# Altium integrated library NXP Semiconductors Standard MOSFETs.IntLib: 477 symbols (part 9 of 14)
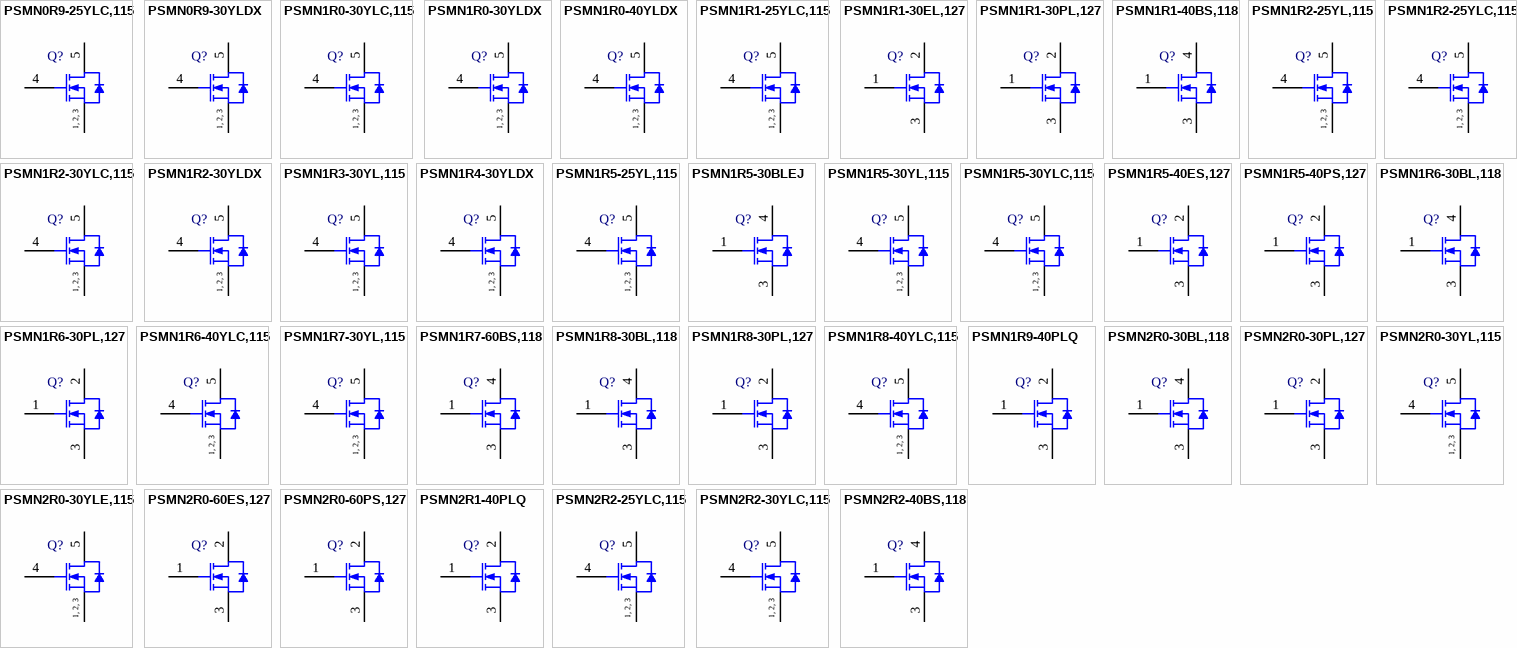
[diagram p20: symbols PSMN0R9-25YLC,115 to PSMN2R2-40BS,118]

## PSMN1R6-40YLC,115
designator Q?
N-Channel Logic Level MOSFET Using NextPower Technology, 40 V, 100 A, 5-Pin SOT1023, Tape and Reel; Manufacturer: NXP Semiconductors; PartNumber: PSMN1R6-40YLC,115; Channel Type: N; Ciss [typ] (pF): 7790; Coss [typ] (pF): 1063; ID [max] (A): 100; Packing: Tape & Reel; Qr [typ] (nC): 62; VDS [max] (V): 40; VGSth [typ] (V): 1.46; PackageVersion: 13-03-05, 03/2013; PackageReference: SOT1023; PackageDescription: 4-Pin Plastic Single-ended Surface Mounted Package, Body 5.125 x 4.575 mm, Pitch 1.27 mm; Supplier 1: Digi-Key; Supplier Part Number 1: 568-9907-2-ND; Supplier 2: Digi-Key; Supplier Part Number 2: 568-9907-1-ND; Supplier 3: Digi-Key; Supplier Part Number 3: 568-9907-6-ND; Mounting Technology: Surface Mount; ComponentLink1Description: Manufacturer URL; ComponentLink1URL: http://www.nxp.com/; ComponentLink2Description: Datasheet; ComponentLink2URL: http://www.nxp.com/documents/data_sheet/PSMN1R6-40YLC.pdf; ComponentLink3Description: Package Specification; ComponentLink3URL: http://www.nxp.com/documents/outline_drawing/sot1023_po.pdf
footprint NXP-SOT1023_N (DPAK, 4-Leads, Body 5.3x4.7mm, Pitch 1.27mm, IPC Medium Density)
footprint NXP-SOT1023_L (DPAK, 4-Leads, Body 5.3x4.7mm, Pitch 1.27mm, IPC High Density)
footprint NXP-SOT1023_M (DPAK, 4-Leads, Body 5.3x4.7mm, Pitch 1.27mm, IPC Low Density)
pins: 1 S "source", 2 S "source", 3 S "source", 4 G "gate", 5 D "mounting base; connected to drain"
text: 1, 2, 3

## PSMN1R7-30YL,115
designator Q?
N-Channel Logic Level MOSFET, 30 V, 100 A, 5-Pin SOT669, Tape and Reel; Manufacturer: NXP Semiconductors; PartNumber: PSMN1R7-30YL,115; Channel Type: N; Ciss [typ] (pF): 5057; Coss [typ] (pF): 1082; ID [max] (A): 100; Packing: Tape & Reel; Qr [typ] (nC): 56; VDS [max] (V): 30; VGSth [typ] (V): 1.7; DatasheetVersion: Rev. 1; PackageVersion: 13-02-27, 02/2013; PackageReference: SOT669; PackageDescription: 4-Pin Plastic Single-ended Surface Mounted Package, Body 4.9 x 3.95 mm, Pitch 1.27 mm; Supplier 1: Digi-Key; Supplier Part Number 1: 568-4678-2-ND; Supplier 2: Digi-Key; Supplier Part Number 2: 568-4678-1-ND; Supplier 3: Digi-Key; Supplier Part Number 3: 568-4678-6-ND; Supplier 4: Newark; Supplier Part Number 4: 75R4850; Supplier 5: Mouser; Supplier Part Number 5: 771-PSMN1R7-30YL-T/R; Mounting Technology: Surface Mount; Code_JEDEC: MO-235; ComponentLink1Description: Manufacturer URL; ComponentLink1URL: http://www.nxp.com/; ComponentLink2Description: Datasheet; ComponentLink2URL: http://www.nxp.com/documents/data_sheet/PSMN1R7-30YL.pdf; ComponentLink3Description: Package Specification; ComponentLink3URL: http://www.nxp.com/documents/outline_drawing/sot669_po.pdf
footprint NXP-SOT669_N (DPAK, 4-Leads, Body 5x4.1mm, Pitch 1.27mm, IPC Medium Density)
footprint NXP-SOT669_L (DPAK, 4-Leads, Body 5x4.1mm, Pitch 1.27mm, IPC High Density)
footprint NXP-SOT669_M (DPAK, 4-Leads, Body 5x4.1mm, Pitch 1.27mm, IPC Low Density)
pins: 1 S "source", 2 S "source", 3 S "source", 4 G "gate", 5 D "mounting base; connected to drain"
text: 1, 2, 3

## PSMN1R7-60BS,118
designator Q?
N-Channel Standard Level MOSFET, 60 V, 120 A, 3-Pin SOT404, Tape and Reel; Manufacturer: NXP Semiconductors; PartNumber: PSMN1R7-60BS,118; Channel Type: N; Ciss [typ] (pF): 9997; Coss [typ] (pF): 1210; ID [max] (A): 120; Packing: Tape & Reel; Qr [typ] (nC): 80; VDS [max] (V): 60; VGSth [typ] (V): 3; DatasheetVersion: Rev. 2; PackageVersion: 13-02-25, 02/2013; PackageReference: SOT404; PackageDescription: 3-Pin Plastic Single-ended Surface Mounted Package, Body 10 x 9.6 mm, Pitch 2.54 mm; Supplier 1: Digi-Key; Supplier Part Number 1: 568-9476-2-ND; Supplier 2: Digi-Key; Supplier Part Number 2: 568-9476-1-ND; Supplier 3: Digi-Key; Supplier Part Number 3: 568-9476-6-ND; Supplier 4: Mouser; Supplier Part Number 4: 771-PSMN1R7-60BS,118; Mounting Technology: Surface Mount; ComponentLink1Description: Manufacturer URL; ComponentLink1URL: http://www.nxp.com/; ComponentLink2Description: Datasheet; ComponentLink2URL: http://www.nxp.com/documents/data_sheet/PSMN1R7-60BS.pdf; ComponentLink3Description: Package Specification; ComponentLink3URL: http://www.nxp.com/documents/outline_drawing/sot404_po.pdf
footprint NXP-SOT404_N (DPAK, 3-Leads, Body 10.3x9.8mm, Pitch 2.54mm, IPC Medium Density)
footprint NXP-SOT404_L (DPAK, 3-Leads, Body 10.3x9.8mm, Pitch 2.54mm, IPC High Density)
footprint NXP-SOT404_M (DPAK, 3-Leads, Body 10.3x9.8mm, Pitch 2.54mm, IPC Low Density)
pins: 1 G "gate", 3 S "source", 4 D "mounting base; connected to drain"

## PSMN1R8-30BL,118
designator Q?
N-Channel Logic Level MOSFET, 30 V, 100 A, 3-Pin SOT404, Tape and Reel; Manufacturer: NXP Semiconductors; PartNumber: PSMN1R8-30BL,118; Channel Type: N; Ciss [typ] (pF): 10180; Coss [typ] (pF): 2000; ID [max] (A): 100; Packing: Tape & Reel; Qr [typ] (nC): 60; VDS [max] (V): 30; VGSth [typ] (V): 1.7; DatasheetVersion: Rev. 1; PackageVersion: 13-02-25, 02/2013; PackageReference: SOT404; PackageDescription: 3-Pin Plastic Single-ended Surface Mounted Package, Body 10 x 9.6 mm, Pitch 2.54 mm; Supplier 1: Digi-Key; Supplier Part Number 1: 568-9482-2-ND; Supplier 2: Digi-Key; Supplier Part Number 2: 568-9482-1-ND; Supplier 3: Digi-Key; Supplier Part Number 3: 568-9482-6-ND; Supplier 4: Mouser; Supplier Part Number 4: 771-PSMN1R8-30BL,118; Mounting Technology: Surface Mount; ComponentLink1Description: Manufacturer URL; ComponentLink1URL: http://www.nxp.com/; ComponentLink2Description: Datasheet; ComponentLink2URL: http://www.nxp.com/documents/data_sheet/PSMN1R8-30BL.pdf; ComponentLink3Description: Package Specification; ComponentLink3URL: http://www.nxp.com/documents/outline_drawing/sot404_po.pdf
footprint NXP-SOT404_N (DPAK, 3-Leads, Body 10.3x9.8mm, Pitch 2.54mm, IPC Medium Density)
footprint NXP-SOT404_L (DPAK, 3-Leads, Body 10.3x9.8mm, Pitch 2.54mm, IPC High Density)
footprint NXP-SOT404_M (DPAK, 3-Leads, Body 10.3x9.8mm, Pitch 2.54mm, IPC Low Density)
pins: 1 G "gate", 3 S "source", 4 D "mounting base; connected to drain"

## PSMN1R8-30PL,127
designator Q?
N-Channel Logic Level MOSFET, 30 V, 100 A, 3-Pin SOT78, Tube; Manufacturer: NXP Semiconductors; PartNumber: PSMN1R8-30PL,127; Channel Type: N; Ciss [typ] (pF): 10180; Coss [typ] (pF): 2000; ID [max] (A): 100; Qr [typ] (nC): 60; VDS [max] (V): 30; VGSth [typ] (V): 1.7; DatasheetVersion: Rev. 02; PackageVersion: 08-06-13, 06/2008; PackageReference: SOT78; PackageDescription: 3-Pin Flange Mount, Vertical Straight Lead, Body 10 x 4.4 mm, Pitch 2.54 mm; Supplier 1: Digi-Key; Supplier Part Number 1: 568-5234-5-ND; Supplier 2: Mouser; Supplier Part Number 2: 771-PSMN1R830PL127; Packing: Tube; Mounting Technology: Through Hole; Code_JEITA: SC-46; Code_JEDEC: 3-lead TO-220AB; ComponentLink1Description: Manufacturer URL; ComponentLink1URL: http://www.nxp.com/; ComponentLink2Description: Datasheet; ComponentLink2URL: http://www.nxp.com/documents/data_sheet/PSMN1R8-30PL.pdf; ComponentLink3Description: Package Specification; ComponentLink3URL: http://www.nxp.com/documents/outline_drawing/sot078_po.pdf
footprint NXP-SOT78 (FM, 3-Leads, Body 10.3x4.7mm, Pitch 2.54mm)
pins: 1 G "gate", 2 D "drain", 3 S "source"

## PSMN1R8-40YLC,115
designator Q?
N-Channel Logic Level MOSFET Using NextPower Technology, 40 V, 100 A, 5-Pin SOT669, Tape and Reel; Manufacturer: NXP Semiconductors; PartNumber: PSMN1R8-40YLC,115; Channel Type: N; Ciss [typ] (pF): 6680; Coss [typ] (pF): 825; ID [max] (A): 100; Packing: Tape & Reel; Qr [typ] (nC): 43; VDS [max] (V): 40; VGSth [typ] (V): 1.45; PackageVersion: 13-02-27, 02/2013; PackageReference: SOT669; PackageDescription: 4-Pin Plastic Single-ended Surface Mounted Package, Body 4.9 x 3.95 mm, Pitch 1.27 mm; Supplier 1: Digi-Key; Supplier Part Number 1: 568-10156-2-ND; Supplier 2: Digi-Key; Supplier Part Number 2: 568-10156-1-ND; Supplier 3: Digi-Key; Supplier Part Number 3: 568-10156-6-ND; Supplier 4: Newark; Supplier Part Number 4: 45W9052; Supplier 5: Mouser; Supplier Part Number 5: 771-PSMN1R8-40YLC115; Mounting Technology: Surface Mount; Code_JEDEC: MO-235; ComponentLink1Description: Manufacturer URL; ComponentLink1URL: http://www.nxp.com/; ComponentLink2Description: Datasheet; ComponentLink2URL: http://www.nxp.com/documents/data_sheet/PSMN1R8-40YLC.pdf; ComponentLink3Description: Package Specification; ComponentLink3URL: http://www.nxp.com/documents/outline_drawing/sot669_po.pdf
footprint NXP-SOT669_N (DPAK, 4-Leads, Body 5x4.1mm, Pitch 1.27mm, IPC Medium Density)
footprint NXP-SOT669_L (DPAK, 4-Leads, Body 5x4.1mm, Pitch 1.27mm, IPC High Density)
footprint NXP-SOT669_M (DPAK, 4-Leads, Body 5x4.1mm, Pitch 1.27mm, IPC Low Density)
pins: 1 S "source", 2 S "source", 3 S "source", 4 G "gate", 5 D "mounting base; connected to drain"
text: 1, 2, 3

## PSMN1R9-40PLQ
designator Q?
N-Channel Logic Level MOSFET, 40 V, 150 A, 3-Pin SOT78, Tube; Manufacturer: NXP Semiconductors; PartNumber: PSMN1R9-40PLQ; Channel Type: N; Ciss [typ] (pF): 13200; Coss [typ] (pF): 1530; ID [max] (A): 150; Qr [typ] (nC): 97; VDS [max] (V): 40; VGSth [typ] (V): 1.7; PackageVersion: 08-06-13, 06/2008; PackageReference: SOT78; PackageDescription: 3-Pin Flange Mount, Vertical Straight Lead, Body 10 x 4.4 mm, Pitch 2.54 mm; Supplier 1: Digi-Key; Supplier Part Number 1: 568-11542-ND; Supplier 2: Newark; Supplier Part Number 2: 70W0397; Supplier 3: Mouser; Supplier Part Number 3: 771-PSMN1R9-40PLQ; Packing: Tube; Mounting Technology: Through Hole; Code_JEITA: SC-46; Code_JEDEC: 3-lead TO-220AB; ComponentLink1Description: Manufacturer URL; ComponentLink1URL: http://www.nxp.com/; ComponentLink2Description: Datasheet; ComponentLink2URL: http://www.nxp.com/documents/data_sheet/PSMN1R9-40PL.pdf; ComponentLink3Description: Package Specification; ComponentLink3URL: http://www.nxp.com/documents/outline_drawing/sot078_po.pdf
footprint NXP-SOT78 (FM, 3-Leads, Body 10.3x4.7mm, Pitch 2.54mm)
pins: 1 G "gate", 2 D "drain", 3 S "source"

## PSMN2R0-30BL,118
designator Q?
N-Channel Logic Level MOSFET, 30 V, 100 A, 3-Pin SOT404, Tape and Reel; Manufacturer: NXP Semiconductors; PartNumber: PSMN2R0-30BL,118; Channel Type: N; Ciss [typ] (pF): 6810; Coss [typ] (pF): 1410; ID [max] (A): 100; Packing: Tape & Reel; Qr [typ] (nC): 66; VDS [max] (V): 30; VGSth [typ] (V): 1.7; DatasheetVersion: Rev. 1; PackageVersion: 13-02-25, 02/2013; PackageReference: SOT404; PackageDescription: 3-Pin Plastic Single-ended Surface Mounted Package, Body 10 x 9.6 mm, Pitch 2.54 mm; Supplier 1: Digi-Key; Supplier Part Number 1: 568-9483-2-ND; Supplier 2: Digi-Key; Supplier Part Number 2: 568-9483-1-ND; Supplier 3: Digi-Key; Supplier Part Number 3: 568-9483-6-ND; Supplier 4: Mouser; Supplier Part Number 4: 771-PSMN2R0-30BL,118; Mounting Technology: Surface Mount; ComponentLink1Description: Manufacturer URL; ComponentLink1URL: http://www.nxp.com/; ComponentLink2Description: Datasheet; ComponentLink2URL: http://www.nxp.com/documents/data_sheet/PSMN2R0-30BL.pdf; ComponentLink3Description: Package Specification; ComponentLink3URL: http://www.nxp.com/documents/outline_drawing/sot404_po.pdf
footprint NXP-SOT404_N (DPAK, 3-Leads, Body 10.3x9.8mm, Pitch 2.54mm, IPC Medium Density)
footprint NXP-SOT404_L (DPAK, 3-Leads, Body 10.3x9.8mm, Pitch 2.54mm, IPC High Density)
footprint NXP-SOT404_M (DPAK, 3-Leads, Body 10.3x9.8mm, Pitch 2.54mm, IPC Low Density)
pins: 1 G "gate", 3 S "source", 4 D "mounting base; connected to drain"

## PSMN2R0-30PL,127
designator Q?
N-Channel Logic Level MOSFET, 30 V, 100 A, 3-Pin SOT78, Tube; Manufacturer: NXP Semiconductors; PartNumber: PSMN2R0-30PL,127; Channel Type: N; Ciss [typ] (pF): 6810; Coss [typ] (pF): 1410; ID [max] (A): 100; Qr [typ] (nC): 66; VDS [max] (V): 30; VGSth [typ] (V): 1.7; DatasheetVersion: Rev. 01; PackageVersion: 08-06-13, 06/2008; PackageReference: SOT78; PackageDescription: 3-Pin Flange Mount, Vertical Straight Lead, Body 10 x 4.4 mm, Pitch 2.54 mm; Supplier 1: Digi-Key; Supplier Part Number 1: 568-4899-5-ND; Supplier 2: Newark; Supplier Part Number 2: 70R7958; Supplier 3: Mouser; Supplier Part Number 3: 771-PSMN2R0-30PL,127; Packing: Tube; Mounting Technology: Through Hole; Code_JEITA: SC-46; Code_JEDEC: 3-lead TO-220AB; ComponentLink1Description: Manufacturer URL; ComponentLink1URL: http://www.nxp.com/; ComponentLink2Description: Datasheet; ComponentLink2URL: http://www.nxp.com/documents/data_sheet/PSMN2R0-30PL.pdf; ComponentLink3Description: Package Specification; ComponentLink3URL: http://www.nxp.com/documents/outline_drawing/sot078_po.pdf
footprint NXP-SOT78 (FM, 3-Leads, Body 10.3x4.7mm, Pitch 2.54mm)
pins: 1 G "gate", 2 D "drain", 3 S "source"

## PSMN2R0-30YL,115
designator Q?
N-Channel Logic Level MOSFET, 30 V, 100 A, 5-Pin SOT669, Tape and Reel; Manufacturer: NXP Semiconductors; PartNumber: PSMN2R0-30YL,115; Channel Type: N; Ciss [typ] (pF): 3980; Coss [typ] (pF): 857; ID [max] (A): 100; Packing: Tape & Reel; Qr [typ] (nC): 49; VDS [max] (V): 30; VGSth [typ] (V): 1.7; DatasheetVersion: Rev. 4; PackageVersion: 13-02-27, 02/2013; PackageReference: SOT669; PackageDescription: 4-Pin Plastic Single-ended Surface Mounted Package, Body 4.9 x 3.95 mm, Pitch 1.27 mm; Supplier 1: Digi-Key; Supplier Part Number 1: 568-4679-2-ND; Supplier 2: Digi-Key; Supplier Part Number 2: 568-4679-1-ND; Supplier 3: Digi-Key; Supplier Part Number 3: 568-4679-6-ND; Supplier 4: Newark; Supplier Part Number 4: 75R4852; Supplier 5: Mouser; Supplier Part Number 5: 771-PSMN2R0-30YL-T/R; Mounting Technology: Surface Mount; Code_JEDEC: MO-235; ComponentLink1Description: Manufacturer URL; ComponentLink1URL: http://www.nxp.com/; ComponentLink2Description: Datasheet; ComponentLink2URL: http://www.nxp.com/documents/data_sheet/PSMN2R0-30YL.pdf; ComponentLink3Description: Package Specification; ComponentLink3URL: http://www.nxp.com/documents/outline_drawing/sot669_po.pdf
footprint NXP-SOT669_N (DPAK, 4-Leads, Body 5x4.1mm, Pitch 1.27mm, IPC Medium Density)
footprint NXP-SOT669_L (DPAK, 4-Leads, Body 5x4.1mm, Pitch 1.27mm, IPC High Density)
footprint NXP-SOT669_M (DPAK, 4-Leads, Body 5x4.1mm, Pitch 1.27mm, IPC Low Density)
pins: 1 S "source", 2 S "source", 3 S "source", 4 G "gate", 5 D "mounting base; connected to drain"
text: 1, 2, 3

## PSMN2R0-30YLE,115
designator Q?
N-Channel Logic Level MOSFET, 30 V, 100 A, 5-Pin SOT669, Tape and Reel; Manufacturer: NXP Semiconductors; PartNumber: PSMN2R0-30YLE,115; Channel Type: N; Ciss [typ] (pF): 5217; Coss [typ] (pF): 1015; ID [max] (A): 100; Packing: Tape & Reel; Qr [typ] (nC): 49.8; VDS [max] (V): 30; VGSth [typ] (V): 1.7; PackageVersion: 13-02-27, 02/2013; PackageReference: SOT669; PackageDescription: 4-Pin Plastic Single-ended Surface Mounted Package, Body 4.9 x 3.95 mm, Pitch 1.27 mm; Supplier 1: Digi-Key; Supplier Part Number 1: 568-10285-2-ND; Supplier 2: Digi-Key; Supplier Part Number 2: 568-10285-1-ND; Supplier 3: Digi-Key; Supplier Part Number 3: 568-10285-6-ND; Supplier 4: Mouser; Supplier Part Number 4: 771-PSMN2R0-30YLE115; Mounting Technology: Surface Mount; Code_JEDEC: MO-235; ComponentLink1Description: Manufacturer URL; ComponentLink1URL: http://www.nxp.com/; ComponentLink2Description: Datasheet; ComponentLink2URL: http://www.nxp.com/documents/data_sheet/PSMN2R0-30YLE.pdf; ComponentLink3Description: Package Specification; ComponentLink3URL: http://www.nxp.com/documents/outline_drawing/sot669_po.pdf
footprint NXP-SOT669_N (DPAK, 4-Leads, Body 5x4.1mm, Pitch 1.27mm, IPC Medium Density)
footprint NXP-SOT669_L (DPAK, 4-Leads, Body 5x4.1mm, Pitch 1.27mm, IPC High Density)
footprint NXP-SOT669_M (DPAK, 4-Leads, Body 5x4.1mm, Pitch 1.27mm, IPC Low Density)
pins: 1 S "source", 2 S "source", 3 S "source", 4 G "gate", 5 D "mounting base; connected to drain"
text: 1, 2, 3

## PSMN2R0-60ES,127
designator Q?
N-Channel Standard Level MOSFET, 60 V, 120 A, 3-Pin SOT226, Rail; Manufacturer: NXP Semiconductors; PartNumber: PSMN2R0-60ES,127; Channel Type: N; Ciss [typ] (pF): 9997; Coss [typ] (pF): 1210; ID [max] (A): 120; Qr [typ] (nC): 80; VDS [max] (V): 60; VGSth [typ] (V): 3; DatasheetVersion: Rev. 02; PackageVersion: 09-08-25, 08/2009; PackageReference: SOT226; PackageDescription: 3-Pin Flange Mount, Vertical Straight Lead, Body 10 x 4.3 mm, Pitch 2.54 mm; Supplier 1: Digi-Key; Supplier Part Number 1: 568-6709-5-ND; Supplier 2: Mouser; Supplier Part Number 2: 771-PSMN2R060ES127; Packing: Rail; Mounting Technology: Through Hole; Code_JEDEC: TO-262; ComponentLink1Description: Manufacturer URL; ComponentLink1URL: http://www.nxp.com/; ComponentLink2Description: Datasheet; ComponentLink2URL: http://www.nxp.com/documents/data_sheet/PSMN2R0-60ES.pdf; ComponentLink3Description: Package Specification; ComponentLink3URL: http://www.nxp.com/documents/outline_drawing/sot226_po.pdf
footprint NXP-SOT226 (FM, 3-Leads, Body 10.3x4.5mm, Pitch 2.54mm)
pins: 1 G "gate", 2 D "drain", 3 S "source"

## PSMN2R0-60PS,127
designator Q?
N-Channel Standard Level MOSFET, 60 V, 120 A, 3-Pin SOT78, Tube; Manufacturer: NXP Semiconductors; PartNumber: PSMN2R0-60PS,127; Channel Type: N; Ciss [typ] (pF): 9997; Coss [typ] (pF): 1210; ID [max] (A): 120; Qr [typ] (nC): 80; VDS [max] (V): 60; VGSth [typ] (V): 3; PackageVersion: 08-06-13, 06/2008; PackageReference: SOT78; PackageDescription: 3-Pin Flange Mount, Vertical Straight Lead, Body 10 x 4.4 mm, Pitch 2.54 mm; Supplier 1: Digi-Key; Supplier Part Number 1: 568-6712-5-ND; Supplier 2: Newark; Supplier Part Number 2: 54T9420; Supplier 3: Mouser; Supplier Part Number 3: 771-PSMN2R060PS127; Packing: Tube; Mounting Technology: Through Hole; Code_JEITA: SC-46; Code_JEDEC: 3-lead TO-220AB; ComponentLink1Description: Manufacturer URL; ComponentLink1URL: http://www.nxp.com/; ComponentLink2Description: Datasheet; ComponentLink2URL: http://www.nxp.com/documents/data_sheet/PSMN2R0-60PS.pdf; ComponentLink3Description: Package Specification; ComponentLink3URL: http://www.nxp.com/documents/outline_drawing/sot078_po.pdf
footprint NXP-SOT78 (FM, 3-Leads, Body 10.3x4.7mm, Pitch 2.54mm)
pins: 1 G "gate", 2 D "drain", 3 S "source"

## PSMN2R1-40PLQ
designator Q?
N-Channel Logic Level MOSFET, 40 V, 150 A, 3-Pin SOT78, Tube; Manufacturer: NXP Semiconductors; PartNumber: PSMN2R1-40PLQ; Channel Type: N; Ciss [typ] (pF): 9584; Coss [typ] (pF): 1190; ID [max] (A): 150; Qr [typ] (nC): 62; VDS [max] (V): 40; VGSth [typ] (V): 1.7; PackageVersion: 08-06-13, 06/2008; PackageReference: SOT78; PackageDescription: 3-Pin Flange Mount, Vertical Straight Lead, Body 10 x 4.4 mm, Pitch 2.54 mm; Supplier 1: Digi-Key; Supplier Part Number 1: 568-10163-5-ND; Supplier 2: Mouser; Supplier Part Number 2: 771-PSMN2R1-40PLQ; Packing: Tube; Mounting Technology: Through Hole; Code_JEITA: SC-46; Code_JEDEC: 3-lead TO-220AB; ComponentLink1Description: Manufacturer URL; ComponentLink1URL: http://www.nxp.com/; ComponentLink2Description: Datasheet; ComponentLink2URL: http://www.nxp.com/documents/data_sheet/PSMN2R1-40PL.pdf; ComponentLink3Description: Package Specification; ComponentLink3URL: http://www.nxp.com/documents/outline_drawing/sot078_po.pdf
footprint NXP-SOT78 (FM, 3-Leads, Body 10.3x4.7mm, Pitch 2.54mm)
pins: 1 G "gate", 2 D "drain", 3 S "source"

## PSMN2R2-25YLC,115
designator Q?
N-Channel Logic Level MOSFET Using NextPower Technology, 25 V, 100 A, 5-Pin SOT669, Tape and Reel; Manufacturer: NXP Semiconductors; PartNumber: PSMN2R2-25YLC,115; Channel Type: N; Ciss [typ] (pF): 2542; Coss [typ] (pF): 617; ID [max] (A): 100; Packing: Tape & Reel; Qr [typ] (nC): 31; VDS [max] (V): 25; VGSth [typ] (V): 1.54; DatasheetVersion: Rev. 1; PackageVersion: 13-02-27, 02/2013; PackageReference: SOT669; PackageDescription: 4-Pin Plastic Single-ended Surface Mounted Package, Body 4.9 x 3.95 mm, Pitch 1.27 mm; Supplier 1: Digi-Key; Supplier Part Number 1: 568-6729-2-ND; Supplier 2: Digi-Key; Supplier Part Number 2: 568-6729-1-ND; Supplier 3: Digi-Key; Supplier Part Number 3: 568-6729-6-ND; Supplier 4: Mouser; Supplier Part Number 4: 771-PSMN2R225YLC115; Mounting Technology: Surface Mount; Code_JEDEC: MO-235; ComponentLink1Description: Manufacturer URL; ComponentLink1URL: http://www.nxp.com/; ComponentLink2Description: Datasheet; ComponentLink2URL: http://www.nxp.com/documents/data_sheet/PSMN2R2-25YLC.pdf; ComponentLink3Description: Package Specification; ComponentLink3URL: http://www.nxp.com/documents/outline_drawing/sot669_po.pdf
footprint NXP-SOT669_N (DPAK, 4-Leads, Body 5x4.1mm, Pitch 1.27mm, IPC Medium Density)
footprint NXP-SOT669_L (DPAK, 4-Leads, Body 5x4.1mm, Pitch 1.27mm, IPC High Density)
footprint NXP-SOT669_M (DPAK, 4-Leads, Body 5x4.1mm, Pitch 1.27mm, IPC Low Density)
pins: 1 S "source", 2 S "source", 3 S "source", 4 G "gate", 5 D "mounting base; connected to drain"
text: 1, 2, 3

## PSMN2R2-30YLC,115
designator Q?
N-Channel Logic Level MOSFET Using NextPower Technology, 30 V, 100 A, 5-Pin SOT669, Tape and Reel; Manufacturer: NXP Semiconductors; PartNumber: PSMN2R2-30YLC,115; Channel Type: N; Ciss [typ] (pF): 3310; Coss [typ] (pF): 651; ID [max] (A): 100; Packing: Tape & Reel; Qr [typ] (nC): 37; VDS [max] (V): 30; VGSth [typ] (V): 1.49; DatasheetVersion: Rev. 02; PackageVersion: 13-02-27, 02/2013; PackageReference: SOT669; PackageDescription: 4-Pin Plastic Single-ended Surface Mounted Package, Body 4.9 x 3.95 mm, Pitch 1.27 mm; Supplier 1: Digi-Key; Supplier Part Number 1: 568-6728-2-ND; Supplier 2: Digi-Key; Supplier Part Number 2: 568-6728-1-ND; Supplier 3: Digi-Key; Supplier Part Number 3: 568-6728-6-ND; Supplier 4: Newark; Supplier Part Number 4: 47T5638; Supplier 5: Mouser; Supplier Part Number 5: 771-PSMN2R230YLC115; Mounting Technology: Surface Mount; Code_JEDEC: MO-235; ComponentLink1Description: Manufacturer URL; ComponentLink1URL: http://www.nxp.com/; ComponentLink2Description: Datasheet; ComponentLink2URL: http://www.nxp.com/documents/data_sheet/PSMN2R2-30YLC.pdf; ComponentLink3Description: Package Specification; ComponentLink3URL: http://www.nxp.com/documents/outline_drawing/sot669_po.pdf
footprint NXP-SOT669_N (DPAK, 4-Leads, Body 5x4.1mm, Pitch 1.27mm, IPC Medium Density)
footprint NXP-SOT669_L (DPAK, 4-Leads, Body 5x4.1mm, Pitch 1.27mm, IPC High Density)
footprint NXP-SOT669_M (DPAK, 4-Leads, Body 5x4.1mm, Pitch 1.27mm, IPC Low Density)
pins: 1 S "source", 2 S "source", 3 S "source", 4 G "gate", 5 D "mounting base; connected to drain"
text: 1, 2, 3

## PSMN2R2-40BS,118
designator Q?
N-Channel Standard Level MOSFET, 40 V, 100 A, 3-Pin SOT404, Tape and Reel; Manufacturer: NXP Semiconductors; PartNumber: PSMN2R2-40BS,118; Channel Type: N; Ciss [typ] (pF): 8423; Coss [typ] (pF): 1671; ID [max] (A): 100; Packing: Tape & Reel; Qr [typ] (nC): 80.75; VDS [max] (V): 40; VGSth [typ] (V): 3; DatasheetVersion: Rev. 1; PackageVersion: 13-02-25, 02/2013; PackageReference: SOT404; PackageDescription: 3-Pin Plastic Single-ended Surface Mounted Package, Body 10 x 9.6 mm, Pitch 2.54 mm; Supplier 1: Digi-Key; Supplier Part Number 1: 568-9488-2-ND; Supplier 2: Digi-Key; Supplier Part Number 2: 568-9488-1-ND; Supplier 3: Digi-Key; Supplier Part Number 3: 568-9488-6-ND; Supplier 4: Mouser; Supplier Part Number 4: 771-PSMN2R2-40BS,118; Mounting Technology: Surface Mount; ComponentLink1Description: Manufacturer URL; ComponentLink1URL: http://www.nxp.com/; ComponentLink2Description: Datasheet; ComponentLink2URL: http://www.nxp.com/documents/data_sheet/PSMN2R2-40BS.pdf; ComponentLink3Description: Package Specification; ComponentLink3URL: http://www.nxp.com/documents/outline_drawing/sot404_po.pdf
footprint NXP-SOT404_N (DPAK, 3-Leads, Body 10.3x9.8mm, Pitch 2.54mm, IPC Medium Density)
footprint NXP-SOT404_L (DPAK, 3-Leads, Body 10.3x9.8mm, Pitch 2.54mm, IPC High Density)
footprint NXP-SOT404_M (DPAK, 3-Leads, Body 10.3x9.8mm, Pitch 2.54mm, IPC Low Density)
pins: 1 G "gate", 3 S "source", 4 D "mounting base; connected to drain"

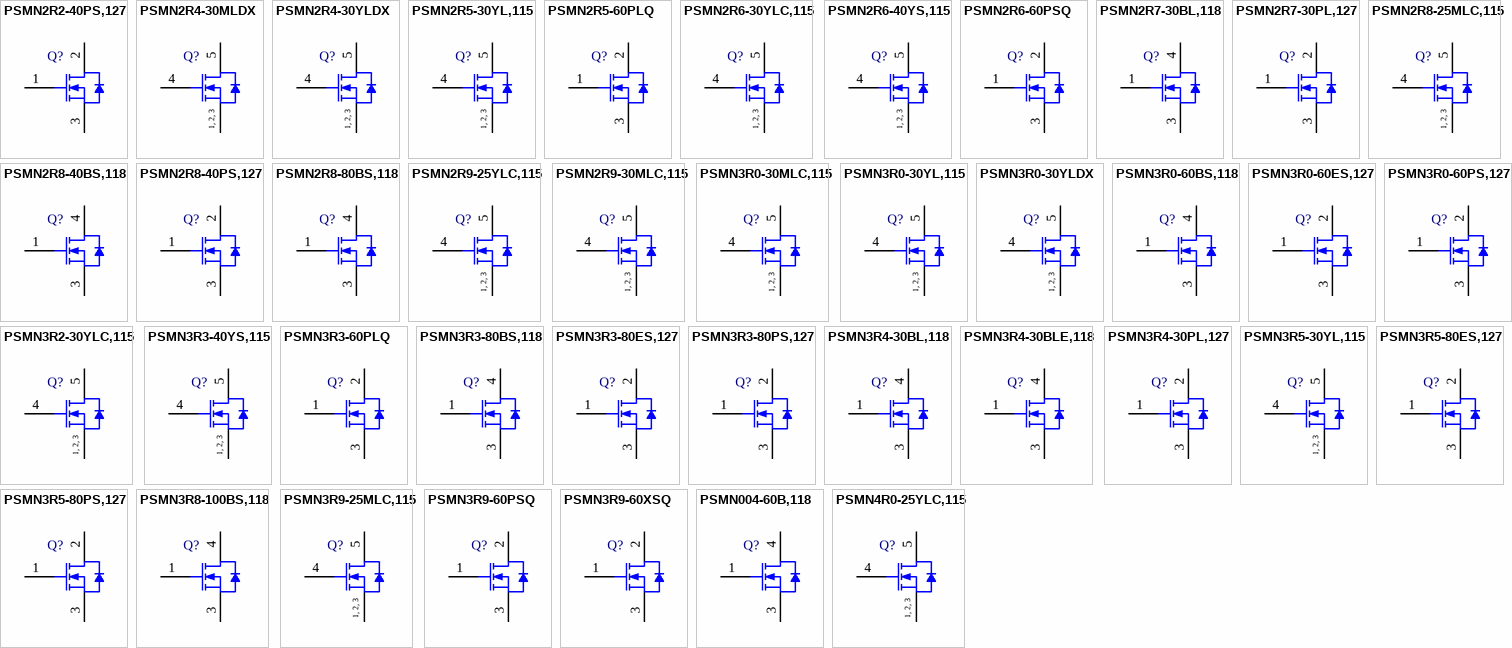
[diagram p8: symbols PSMN2R2-40PS,127 to PSMN4R0-25YLC,115]

## PSMN2R2-40PS,127
designator Q?
N-Channel Standard Level MOSFET, 40 V, 100 A, 3-Pin SOT78, Tube; Manufacturer: NXP Semiconductors; PartNumber: PSMN2R2-40PS,127; Channel Type: N; Ciss [typ] (pF): 8423; Coss [typ] (pF): 1671; ID [max] (A): 100; Qr [typ] (nC): 80.75; VDS [max] (V): 40; VGSth [typ] (V): 3; PackageVersion: 08-06-13, 06/2008; PackageReference: SOT78; PackageDescription: 3-Pin Flange Mount, Vertical Straight Lead, Body 10 x 4.4 mm, Pitch 2.54 mm; Supplier 1: Digi-Key; Supplier Part Number 1: 568-4898-5-ND; Supplier 2: Newark; Supplier Part Number 2: 70R7960; Supplier 3: Mouser; Supplier Part Number 3: 771-PSMN2R2-40PS,127; Packing: Tube; Mounting Technology: Through Hole; Code_JEITA: SC-46; Code_JEDEC: 3-lead TO-220AB; ComponentLink1Description: Manufacturer URL; ComponentLink1URL: http://www.nxp.com/; ComponentLink2Description: Datasheet; ComponentLink2URL: http://www.nxp.com/documents/data_sheet/PSMN2R2-40PS.pdf; ComponentLink3Description: Package Specification; ComponentLink3URL: http://www.nxp.com/documents/outline_drawing/sot078_po.pdf
footprint NXP-SOT78 (FM, 3-Leads, Body 10.3x4.7mm, Pitch 2.54mm)
pins: 1 G "gate", 2 D "drain", 3 S "source"

## PSMN2R4-30MLDX
designator Q?
N-Channel Logic Level MOSFET Using NextPowerS3 Technology, 30 V, 70 A, 5-Pin SOT1210, Reel; Manufacturer: NXP Semiconductors; PartNumber: PSMN2R4-30MLDX; Channel Type: N; Ciss [typ] (pF): 2176; Coss [typ] (pF): 1150; ID [max] (A): 70; Qr [typ] (nC): 23.5; VDS [max] (V): 30; VGSth [typ] (V): 1.7; PackageVersion: 14-04-25, 04/2014; PackageReference: SOT1210; PackageDescription: 8-Pin Plastic Single-ended Surface Mounted Package, Body 3.3 x 2.6 mm, Pitch 0.65 mm; Supplier 1: Digi-Key; Supplier Part Number 1: 568-11374-2-ND; Supplier 2: Digi-Key; Supplier Part Number 2: 568-11374-1-ND; Supplier 3: Digi-Key; Supplier Part Number 3: 568-11374-6-ND; Supplier 4: Newark; Supplier Part Number 4: 27X7566; Supplier 5: Mouser; Supplier Part Number 5: 771-PSMN2R4-30MLDX; Packing: Reel; Mounting Technology: Surface Mount; ComponentLink1Description: Manufacturer URL; ComponentLink1URL: http://www.nxp.com/; ComponentLink2Description: Datasheet; ComponentLink2URL: http://www.nxp.com/documents/data_sheet/PSMN2R4-30MLD.pdf; ComponentLink3Description: Package Specification; ComponentLink3URL: http://www.nxp.com/documents/outline_drawing/sot1210_po.pdf
footprint NXP-SOT1210_N (DPAK, 5-Leads, Body 3.4x2.7mm, Pitch 0.65mm, IPC Medium Density)
footprint NXP-SOT1210_L (DPAK, 5-Leads, Body 3.4x2.7mm, Pitch 0.65mm, IPC High Density)
footprint NXP-SOT1210_M (DPAK, 5-Leads, Body 3.4x2.7mm, Pitch 0.65mm, IPC Low Density)
pins: 1 S "source", 2 S "source", 3 S "source", 4 G "gate", 5 D "mounting base; connected to drain"
text: 1, 2, 3

## PSMN2R4-30YLDX
designator Q?
N-Channel Logic Level MOSFET Using NextPowerS3 Technology, 30 V, 100 A, 5-Pin SOT669, Tape and Reel; Manufacturer: NXP Semiconductors; PartNumber: PSMN2R4-30YLDX; Channel Type: N; Ciss [typ] (pF): 2256; Coss [typ] (pF): 1175; ID [max] (A): 100; Packing: Tape & Reel; Qr [typ] (nC): 20; VDS [max] (V): 30; VGSth [typ] (V): 1.7; PackageVersion: 13-02-27, 02/2013; PackageReference: SOT669; PackageDescription: 4-Pin Plastic Single-ended Surface Mounted Package, Body 4.9 x 3.95 mm, Pitch 1.27 mm; Supplier 1: Digi-Key; Supplier Part Number 1: 568-11375-2-ND; Supplier 2: Digi-Key; Supplier Part Number 2: 568-11375-1-ND; Supplier 3: Digi-Key; Supplier Part Number 3: 568-11375-6-ND; Supplier 4: Newark; Supplier Part Number 4: 27X7567; Supplier 5: Mouser; Supplier Part Number 5: 771-PSMN2R4-30YLDX; Mounting Technology: Surface Mount; Code_JEDEC: MO-235; ComponentLink1Description: Manufacturer URL; ComponentLink1URL: http://www.nxp.com/; ComponentLink2Description: Datasheet; ComponentLink2URL: http://www.nxp.com/documents/data_sheet/PSMN2R4-30YLD.pdf; ComponentLink3Description: Package Specification; ComponentLink3URL: http://www.nxp.com/documents/outline_drawing/sot669_po.pdf
footprint NXP-SOT669_N (DPAK, 4-Leads, Body 5x4.1mm, Pitch 1.27mm, IPC Medium Density)
footprint NXP-SOT669_L (DPAK, 4-Leads, Body 5x4.1mm, Pitch 1.27mm, IPC High Density)
footprint NXP-SOT669_M (DPAK, 4-Leads, Body 5x4.1mm, Pitch 1.27mm, IPC Low Density)
pins: 1 S "source", 2 S "source", 3 S "source", 4 G "gate", 5 D "mounting base; connected to drain"
text: 1, 2, 3

## PSMN2R5-30YL,115
designator Q?
N-Channel Logic Level MOSFET, 30 V, 100 A, 5-Pin SOT669, Tape and Reel; Manufacturer: NXP Semiconductors; PartNumber: PSMN2R5-30YL,115; Channel Type: N; Ciss [typ] (pF): 3468; Coss [typ] (pF): 710; ID [max] (A): 100; Packing: Tape & Reel; Qr [typ] (nC): 38; VDS [max] (V): 30; VGSth [typ] (V): 1.7; DatasheetVersion: Rev. 04; PackageVersion: 13-02-27, 02/2013; PackageReference: SOT669; PackageDescription: 4-Pin Plastic Single-ended Surface Mounted Package, Body 4.9 x 3.95 mm, Pitch 1.27 mm; Supplier 1: Digi-Key; Supplier Part Number 1: 568-4680-2-ND; Supplier 2: Digi-Key; Supplier Part Number 2: 568-4680-1-ND; Supplier 3: Digi-Key; Supplier Part Number 3: 568-4680-6-ND; Supplier 4: Newark; Supplier Part Number 4: 79R2062; Supplier 5: Mouser; Supplier Part Number 5: 771-PSMN2R5-30YL-T/R; Mounting Technology: Surface Mount; Code_JEDEC: MO-235; ComponentLink1Description: Manufacturer URL; ComponentLink1URL: http://www.nxp.com/; ComponentLink2Description: Datasheet; ComponentLink2URL: http://www.nxp.com/documents/data_sheet/PSMN2R5-30YL.pdf; ComponentLink3Description: Package Specification; ComponentLink3URL: http://www.nxp.com/documents/outline_drawing/sot669_po.pdf
footprint NXP-SOT669_N (DPAK, 4-Leads, Body 5x4.1mm, Pitch 1.27mm, IPC Medium Density)
footprint NXP-SOT669_L (DPAK, 4-Leads, Body 5x4.1mm, Pitch 1.27mm, IPC High Density)
footprint NXP-SOT669_M (DPAK, 4-Leads, Body 5x4.1mm, Pitch 1.27mm, IPC Low Density)
pins: 1 S "source", 2 S "source", 3 S "source", 4 G "gate", 5 D "mounting base; connected to drain"
text: 1, 2, 3

## PSMN2R5-60PLQ
designator Q?
N-Channel Logic Level MOSFET, 60 V, 150 A, 3-Pin SOT78, Tube; Manufacturer: NXP Semiconductors; PartNumber: PSMN2R5-60PLQ; Channel Type: N; Ciss [typ] (pF): 11700; Coss [typ] (pF): 1025; ID [max] (A): 150; Qr [typ] (nC): 98; VDS [max] (V): 60; VGSth [typ] (V): 1.7; PackageVersion: 08-06-13, 06/2008; PackageReference: SOT78; PackageDescription: 3-Pin Flange Mount, Vertical Straight Lead, Body 10 x 4.4 mm, Pitch 2.54 mm; Supplier 1: Digi-Key; Supplier Part Number 1: 568-10164-5-ND; Supplier 2: Mouser; Supplier Part Number 2: 771-PSMN2R5-60PLQ; Packing: Tube; Mounting Technology: Through Hole; Code_JEITA: SC-46; Code_JEDEC: 3-lead TO-220AB; ComponentLink1Description: Manufacturer URL; ComponentLink1URL: http://www.nxp.com/; ComponentLink2Description: Datasheet; ComponentLink2URL: http://www.nxp.com/documents/data_sheet/PSMN2R5-60PL.pdf; ComponentLink3Description: Package Specification; ComponentLink3URL: http://www.nxp.com/documents/outline_drawing/sot078_po.pdf
footprint NXP-SOT78 (FM, 3-Leads, Body 10.3x4.7mm, Pitch 2.54mm)
pins: 1 G "gate", 2 D "drain", 3 S "source"

## PSMN2R6-30YLC,115
designator Q?
N-Channel Logic Level MOSFET Using NextPower Technology, 30 V, 100 A, 5-Pin SOT669, Tape and Reel; Manufacturer: NXP Semiconductors; PartNumber: PSMN2R6-30YLC,115; Channel Type: N; Ciss [typ] (pF): 2435; Coss [typ] (pF): 549; ID [max] (A): 100; Packing: Tape & Reel; Qr [typ] (nC): 31; VDS [max] (V): 30; VGSth [typ] (V): 1.54; DatasheetVersion: Rev. 01; PackageVersion: 13-02-27, 02/2013; PackageReference: SOT669; PackageDescription: 4-Pin Plastic Single-ended Surface Mounted Package, Body 4.9 x 3.95 mm, Pitch 1.27 mm; Supplier 1: Digi-Key; Supplier Part Number 1: 568-6730-2-ND; Supplier 2: Digi-Key; Supplier Part Number 2: 568-6730-1-ND; Supplier 3: Digi-Key; Supplier Part Number 3: 568-6730-6-ND; Supplier 4: Mouser; Supplier Part Number 4: 771-PSMN2R630YLC115; Mounting Technology: Surface Mount; Code_JEDEC: MO-235; ComponentLink1Description: Manufacturer URL; ComponentLink1URL: http://www.nxp.com/; ComponentLink2Description: Datasheet; ComponentLink2URL: http://www.nxp.com/documents/data_sheet/PSMN2R6-30YLC.pdf; ComponentLink3Description: Package Specification; ComponentLink3URL: http://www.nxp.com/documents/outline_drawing/sot669_po.pdf
footprint NXP-SOT669_N (DPAK, 4-Leads, Body 5x4.1mm, Pitch 1.27mm, IPC Medium Density)
footprint NXP-SOT669_L (DPAK, 4-Leads, Body 5x4.1mm, Pitch 1.27mm, IPC High Density)
footprint NXP-SOT669_M (DPAK, 4-Leads, Body 5x4.1mm, Pitch 1.27mm, IPC Low Density)
pins: 1 S "source", 2 S "source", 3 S "source", 4 G "gate", 5 D "mounting base; connected to drain"
text: 1, 2, 3

## PSMN2R6-40YS,115
designator Q?
N-Channel Standard Level MOSFET, 40 V, 100 A, 5-Pin SOT669, Tape and Reel; Manufacturer: NXP Semiconductors; PartNumber: PSMN2R6-40YS,115; Channel Type: N; Ciss [typ] (pF): 3776; Coss [typ] (pF): 948; ID [max] (A): 100; Packing: Tape & Reel; Qr [typ] (nC): 47; VDS [max] (V): 40; VGSth [typ] (V): 3; DatasheetVersion: Rev. 01; PackageVersion: 13-02-27, 02/2013; PackageReference: SOT669; PackageDescription: 4-Pin Plastic Single-ended Surface Mounted Package, Body 4.9 x 3.95 mm, Pitch 1.27 mm; Supplier 1: Digi-Key; Supplier Part Number 1: 568-4906-2-ND; Supplier 2: Digi-Key; Supplier Part Number 2: 568-4906-1-ND; Supplier 3: Digi-Key; Supplier Part Number 3: 568-4906-6-ND; Supplier 4: Newark; Supplier Part Number 4: 79R2063; Supplier 5: Newark; Supplier Part Number 5: 70R7962; Supplier 6: Mouser; Supplier Part Number 6: 771-PSMN2R6-40YS,115; Mounting Technology: Surface Mount; Code_JEDEC: MO-235; ComponentLink1Description: Manufacturer URL; ComponentLink1URL: http://www.nxp.com/; ComponentLink2Description: Datasheet; ComponentLink2URL: http://www.nxp.com/documents/data_sheet/PSMN2R6-40YS.pdf; ComponentLink3Description: Package Specification; ComponentLink3URL: http://www.nxp.com/documents/outline_drawing/sot669_po.pdf
footprint NXP-SOT669_N (DPAK, 4-Leads, Body 5x4.1mm, Pitch 1.27mm, IPC Medium Density)
footprint NXP-SOT669_L (DPAK, 4-Leads, Body 5x4.1mm, Pitch 1.27mm, IPC High Density)
footprint NXP-SOT669_M (DPAK, 4-Leads, Body 5x4.1mm, Pitch 1.27mm, IPC Low Density)
pins: 1 S "source", 2 S "source", 3 S "source", 4 G "gate", 5 D "mounting base; connected to drain"
text: 1, 2, 3

## PSMN2R6-60PSQ
designator Q?
N-Channel Standard Level MOSFET, 60 V, 150 A, 3-Pin SOT78, Tube; Manufacturer: NXP Semiconductors; PartNumber: PSMN2R6-60PSQ; Channel Type: N; Ciss [typ] (pF): 7629; Coss [typ] (pF): 968; ID [max] (A): 150; Qr [typ] (nC): 67; VDS [max] (V): 60; VGSth [typ] (V): 3; PackageVersion: 08-06-13, 06/2008; PackageReference: SOT78; PackageDescription: 3-Pin Flange Mount, Vertical Straight Lead, Body 10 x 4.4 mm, Pitch 2.54 mm; Supplier 1: Digi-Key; Supplier Part Number 1: 568-10165-5-ND; Supplier 2: Mouser; Supplier Part Number 2: 771-PSMN2R6-60PSQ; Packing: Tube; Mounting Technology: Through Hole; Code_JEITA: SC-46; Code_JEDEC: 3-lead TO-220AB; ComponentLink1Description: Manufacturer URL; ComponentLink1URL: http://www.nxp.com/; ComponentLink2Description: Datasheet; ComponentLink2URL: http://www.nxp.com/documents/data_sheet/PSMN2R6-60PS.pdf; ComponentLink3Description: Package Specification; ComponentLink3URL: http://www.nxp.com/documents/outline_drawing/sot078_po.pdf
footprint NXP-SOT78 (FM, 3-Leads, Body 10.3x4.7mm, Pitch 2.54mm)
pins: 1 G "gate", 2 D "drain", 3 S "source"

## PSMN2R7-30BL,118
designator Q?
N-Channel Logic Level MOSFET, 30 V, 100 A, 3-Pin SOT404, Tape and Reel; Manufacturer: NXP Semiconductors; PartNumber: PSMN2R7-30BL,118; Channel Type: N; Ciss [typ] (pF): 3954; Coss [typ] (pF): 822; ID [max] (A): 100; Packing: Tape & Reel; Qr [typ] (nC): 33; VDS [max] (V): 30; VGSth [typ] (V): 1.7; DatasheetVersion: Rev. 1; PackageVersion: 13-02-25, 02/2013; PackageReference: SOT404; PackageDescription: 3-Pin Plastic Single-ended Surface Mounted Package, Body 10 x 9.6 mm, Pitch 2.54 mm; Supplier 1: Digi-Key; Supplier Part Number 1: 568-9484-2-ND; Supplier 2: Digi-Key; Supplier Part Number 2: 568-9484-1-ND; Supplier 3: Digi-Key; Supplier Part Number 3: 568-9484-6-ND; Supplier 4: Mouser; Supplier Part Number 4: 771-PSMN2R7-30BL,118; Mounting Technology: Surface Mount; ComponentLink1Description: Manufacturer URL; ComponentLink1URL: http://www.nxp.com/; ComponentLink2Description: Datasheet; ComponentLink2URL: http://www.nxp.com/documents/data_sheet/PSMN2R7-30BL.pdf; ComponentLink3Description: Package Specification; ComponentLink3URL: http://www.nxp.com/documents/outline_drawing/sot404_po.pdf
footprint NXP-SOT404_N (DPAK, 3-Leads, Body 10.3x9.8mm, Pitch 2.54mm, IPC Medium Density)
footprint NXP-SOT404_L (DPAK, 3-Leads, Body 10.3x9.8mm, Pitch 2.54mm, IPC High Density)
footprint NXP-SOT404_M (DPAK, 3-Leads, Body 10.3x9.8mm, Pitch 2.54mm, IPC Low Density)
pins: 1 G "gate", 3 S "source", 4 D "mounting base; connected to drain"

## PSMN2R7-30PL,127
designator Q?
N-Channel Logic Level MOSFET, 30 V, 100 A, 3-Pin SOT78, Tube; Manufacturer: NXP Semiconductors; PartNumber: PSMN2R7-30PL,127; Channel Type: N; Ciss [typ] (pF): 3954; Coss [typ] (pF): 822; ID [max] (A): 100; Qr [typ] (nC): 33; VDS [max] (V): 30; VGSth [typ] (V): 1.7; DatasheetVersion: Rev. 02; PackageVersion: 08-06-13, 06/2008; PackageReference: SOT78; PackageDescription: 3-Pin Flange Mount, Vertical Straight Lead, Body 10 x 4.4 mm, Pitch 2.54 mm; Supplier 1: Digi-Key; Supplier Part Number 1: 568-5235-5-ND; Supplier 2: Mouser; Supplier Part Number 2: 771-PSMN2R730PL127; Packing: Tube; Mounting Technology: Through Hole; Code_JEITA: SC-46; Code_JEDEC: 3-lead TO-220AB; ComponentLink1Description: Manufacturer URL; ComponentLink1URL: http://www.nxp.com/; ComponentLink2Description: Datasheet; ComponentLink2URL: http://www.nxp.com/documents/data_sheet/PSMN2R7-30PL.pdf; ComponentLink3Description: Package Specification; ComponentLink3URL: http://www.nxp.com/documents/outline_drawing/sot078_po.pdf
footprint NXP-SOT78 (FM, 3-Leads, Body 10.3x4.7mm, Pitch 2.54mm)
pins: 1 G "gate", 2 D "drain", 3 S "source"

## PSMN2R8-25MLC,115
designator Q?
N-Channel Logic Level MOSFET Using NextPower Technology, 25 V, 70 A, 5-Pin SOT1210, Reel; Manufacturer: NXP Semiconductors; PartNumber: PSMN2R8-25MLC,115; Channel Type: N; Ciss [typ] (pF): 2432; Coss [typ] (pF): 533; ID [max] (A): 70; Qr [typ] (nC): 14.1; VDS [max] (V): 25; VGSth [typ] (V): 1.74; DatasheetVersion: Rev. 3; PackageVersion: 14-04-25, 04/2014; PackageReference: SOT1210; PackageDescription: 8-Pin Plastic Single-ended Surface Mounted Package, Body 3.3 x 2.6 mm, Pitch 0.65 mm; Supplier 1: Digi-Key; Supplier Part Number 1: 568-9572-2-ND; Supplier 2: Digi-Key; Supplier Part Number 2: 568-9572-1-ND; Supplier 3: Digi-Key; Supplier Part Number 3: 568-9572-6-ND; Supplier 4: Mouser; Supplier Part Number 4: 771-PSMN2R8-25MLC115; Packing: Reel; Mounting Technology: Surface Mount; ComponentLink1Description: Manufacturer URL; ComponentLink1URL: http://www.nxp.com/; ComponentLink2Description: Datasheet; ComponentLink2URL: http://www.nxp.com/documents/data_sheet/PSMN2R8-25MLC.pdf; ComponentLink3Description: Package Specification; ComponentLink3URL: http://www.nxp.com/documents/outline_drawing/sot1210_po.pdf
footprint NXP-SOT1210_N (DPAK, 5-Leads, Body 3.4x2.7mm, Pitch 0.65mm, IPC Medium Density)
footprint NXP-SOT1210_L (DPAK, 5-Leads, Body 3.4x2.7mm, Pitch 0.65mm, IPC High Density)
footprint NXP-SOT1210_M (DPAK, 5-Leads, Body 3.4x2.7mm, Pitch 0.65mm, IPC Low Density)
pins: 1 S "source", 2 S "source", 3 S "source", 4 G "gate", 5 D "mounting base; connected to drain"
text: 1, 2, 3

## PSMN2R8-40BS,118
designator Q?
N-Channel Standard Level MOSFET, 40 V, 100 A, 3-Pin SOT404, Tape and Reel; Manufacturer: NXP Semiconductors; PartNumber: PSMN2R8-40BS,118; Channel Type: N; Ciss [typ] (pF): 4491; Coss [typ] (pF): 937; ID [max] (A): 100; Packing: Tape & Reel; Qr [typ] (nC): 61; VDS [max] (V): 40; VGSth [typ] (V): 3; DatasheetVersion: Rev. 1; PackageVersion: 13-02-25, 02/2013; PackageReference: SOT404; PackageDescription: 3-Pin Plastic Single-ended Surface Mounted Package, Body 10 x 9.6 mm, Pitch 2.54 mm; Supplier 1: Digi-Key; Supplier Part Number 1: 568-9489-2-ND; Supplier 2: Digi-Key; Supplier Part Number 2: 568-9489-1-ND; Supplier 3: Digi-Key; Supplier Part Number 3: 568-9489-6-ND; Supplier 4: Mouser; Supplier Part Number 4: 771-PSMN2R8-40BS,118; Mounting Technology: Surface Mount; ComponentLink1Description: Manufacturer URL; ComponentLink1URL: http://www.nxp.com/; ComponentLink2Description: Datasheet; ComponentLink2URL: http://www.nxp.com/documents/data_sheet/PSMN2R8-40BS.pdf; ComponentLink3Description: Package Specification; ComponentLink3URL: http://www.nxp.com/documents/outline_drawing/sot404_po.pdf
footprint NXP-SOT404_N (DPAK, 3-Leads, Body 10.3x9.8mm, Pitch 2.54mm, IPC Medium Density)
footprint NXP-SOT404_L (DPAK, 3-Leads, Body 10.3x9.8mm, Pitch 2.54mm, IPC High Density)
footprint NXP-SOT404_M (DPAK, 3-Leads, Body 10.3x9.8mm, Pitch 2.54mm, IPC Low Density)
pins: 1 G "gate", 3 S "source", 4 D "mounting base; connected to drain"

## PSMN2R8-40PS,127
designator Q?
N-Channel Standard Level MOSFET, 40 V, 100 A, 3-Pin SOT78, Tube; Manufacturer: NXP Semiconductors; PartNumber: PSMN2R8-40PS,127; Channel Type: N; Ciss [typ] (pF): 4491; Coss [typ] (pF): 937; ID [max] (A): 100; Qr [typ] (nC): 61; VDS [max] (V): 40; VGSth [typ] (V): 3; PackageVersion: 08-06-13, 06/2008; PackageReference: SOT78; PackageDescription: 3-Pin Flange Mount, Vertical Straight Lead, Body 10 x 4.4 mm, Pitch 2.54 mm; Supplier 1: Digi-Key; Supplier Part Number 1: 568-7513-5-ND; Supplier 2: Mouser; Supplier Part Number 2: 771-PSMN2R840PS127; Packing: Tube; Mounting Technology: Through Hole; Code_JEITA: SC-46; Code_JEDEC: 3-lead TO-220AB; ComponentLink1Description: Manufacturer URL; ComponentLink1URL: http://www.nxp.com/; ComponentLink2Description: Datasheet; ComponentLink2URL: http://www.nxp.com/documents/data_sheet/PSMN2R8-40PS.pdf; ComponentLink3Description: Package Specification; ComponentLink3URL: http://www.nxp.com/documents/outline_drawing/sot078_po.pdf
footprint NXP-SOT78 (FM, 3-Leads, Body 10.3x4.7mm, Pitch 2.54mm)
pins: 1 G "gate", 2 D "drain", 3 S "source"

## PSMN2R8-80BS,118
designator Q?
N-Channel Standard Level FET, 80 V, 120 A, 3-Pin SOT404, Tape and Reel; Manufacturer: NXP Semiconductors; PartNumber: PSMN2R8-80BS,118; Channel Type: N; Ciss [typ] (pF): 9961; Coss [typ] (pF): 847; ID [max] (A): 120; Packing: Tape & Reel; Qr [typ] (nC): 121; VDS [max] (V): 80; VGSth [typ] (V): 3; DatasheetVersion: Rev. 2; PackageVersion: 13-02-25, 02/2013; PackageReference: SOT404; PackageDescription: 3-Pin Plastic Single-ended Surface Mounted Package, Body 10 x 9.6 mm, Pitch 2.54 mm; Supplier 1: Digi-Key; Supplier Part Number 1: 568-9477-2-ND; Supplier 2: Digi-Key; Supplier Part Number 2: 568-9477-1-ND; Supplier 3: Digi-Key; Supplier Part Number 3: 568-9477-6-ND; Supplier 4: Mouser; Supplier Part Number 4: 771-PSMN2R8-80BS,118; Mounting Technology: Surface Mount; ComponentLink1Description: Manufacturer URL; ComponentLink1URL: http://www.nxp.com/; ComponentLink2Description: Datasheet; ComponentLink2URL: http://www.nxp.com/documents/data_sheet/PSMN2R8-80BS.pdf; ComponentLink3Description: Package Specification; ComponentLink3URL: http://www.nxp.com/documents/outline_drawing/sot404_po.pdf
footprint NXP-SOT404_N (DPAK, 3-Leads, Body 10.3x9.8mm, Pitch 2.54mm, IPC Medium Density)
footprint NXP-SOT404_L (DPAK, 3-Leads, Body 10.3x9.8mm, Pitch 2.54mm, IPC High Density)
footprint NXP-SOT404_M (DPAK, 3-Leads, Body 10.3x9.8mm, Pitch 2.54mm, IPC Low Density)
pins: 1 G "gate", 3 S "source", 4 D "mounting base; connected to drain"

## PSMN2R9-25YLC,115
designator Q?
N-Channel Logic Level MOSFET Using NextPower Technology, 25 V, 100 A, 5-Pin SOT669, Tape and Reel; Manufacturer: NXP Semiconductors; PartNumber: PSMN2R9-25YLC,115; Channel Type: N; Ciss [typ] (pF): 2083; Coss [typ] (pF): 501; ID [max] (A): 100; Packing: Tape & Reel; Qr [typ] (nC): 23; VDS [max] (V): 25; VGSth [typ] (V): 1.54; DatasheetVersion: Rev. 1; PackageVersion: 13-02-27, 02/2013; PackageReference: SOT669; PackageDescription: 4-Pin Plastic Single-ended Surface Mounted Package, Body 4.9 x 3.95 mm, Pitch 1.27 mm; Supplier 1: Digi-Key; Supplier Part Number 1: 568-6731-2-ND; Supplier 2: Digi-Key; Supplier Part Number 2: 568-6731-1-ND; Supplier 3: Digi-Key; Supplier Part Number 3: 568-6731-6-ND; Supplier 4: Mouser; Supplier Part Number 4: 771-PSMN2R925YLC115; Mounting Technology: Surface Mount; Code_JEDEC: MO-235; ComponentLink1Description: Manufacturer URL; ComponentLink1URL: http://www.nxp.com/; ComponentLink2Description: Datasheet; ComponentLink2URL: http://www.nxp.com/documents/data_sheet/PSMN2R9-25YLC.pdf; ComponentLink3Description: Package Specification; ComponentLink3URL: http://www.nxp.com/documents/outline_drawing/sot669_po.pdf
footprint NXP-SOT669_N (DPAK, 4-Leads, Body 5x4.1mm, Pitch 1.27mm, IPC Medium Density)
footprint NXP-SOT669_L (DPAK, 4-Leads, Body 5x4.1mm, Pitch 1.27mm, IPC High Density)
footprint NXP-SOT669_M (DPAK, 4-Leads, Body 5x4.1mm, Pitch 1.27mm, IPC Low Density)
pins: 1 S "source", 2 S "source", 3 S "source", 4 G "gate", 5 D "mounting base; connected to drain"
text: 1, 2, 3

## PSMN2R9-30MLC,115
designator Q?
N-Channel Logic Level MOSFET Using NextPower Technology, 30 V, 70 A, 5-Pin SOT1210, Reel; Manufacturer: NXP Semiconductors; PartNumber: PSMN2R9-30MLC,115; Channel Type: N; Ciss [typ] (pF): 2419; Coss [typ] (pF): 500; ID [max] (A): 70; Qr [typ] (nC): 15.6; VDS [max] (V): 30; VGSth [typ] (V): 1.78; DatasheetVersion: Rev. 2; PackageVersion: 14-04-25, 04/2014; PackageReference: SOT1210; PackageDescription: 8-Pin Plastic Single-ended Surface Mounted Package, Body 3.3 x 2.6 mm, Pitch 0.65 mm; Supplier 1: Digi-Key; Supplier Part Number 1: 568-9573-2-ND; Supplier 2: Digi-Key; Supplier Part Number 2: 568-9573-1-ND; Supplier 3: Digi-Key; Supplier Part Number 3: 568-9573-6-ND; Supplier 4: Mouser; Supplier Part Number 4: 771-PSMN2R9-30MLC115; Packing: Reel; Mounting Technology: Surface Mount; ComponentLink1Description: Manufacturer URL; ComponentLink1URL: http://www.nxp.com/; ComponentLink2Description: Datasheet; ComponentLink2URL: http://www.nxp.com/documents/data_sheet/PSMN2R9-30MLC.pdf; ComponentLink3Description: Package Specification; ComponentLink3URL: http://www.nxp.com/documents/outline_drawing/sot1210_po.pdf
footprint NXP-SOT1210_N (DPAK, 5-Leads, Body 3.4x2.7mm, Pitch 0.65mm, IPC Medium Density)
footprint NXP-SOT1210_L (DPAK, 5-Leads, Body 3.4x2.7mm, Pitch 0.65mm, IPC High Density)
footprint NXP-SOT1210_M (DPAK, 5-Leads, Body 3.4x2.7mm, Pitch 0.65mm, IPC Low Density)
pins: 1 S "source", 2 S "source", 3 S "source", 4 G "gate", 5 D "mounting base; connected to drain"
text: 1, 2, 3

## PSMN3R0-30MLC,115
designator Q?
N-Channel Logic Level MOSFET Using NextPower Technology, 30 V, 70 A, 5-Pin SOT1210, Reel; Manufacturer: NXP Semiconductors; PartNumber: PSMN3R0-30MLC,115; Channel Type: N; Ciss [typ] (pF): 2330; Coss [typ] (pF): 480; ID [max] (A): 70; Qr [typ] (nC): 17; VDS [max] (V): 30; VGSth [typ] (V): 1.74; DatasheetVersion: Rev. 4; PackageVersion: 14-04-25, 04/2014; PackageReference: SOT1210; PackageDescription: 8-Pin Plastic Single-ended Surface Mounted Package, Body 3.3 x 2.6 mm, Pitch 0.65 mm; Supplier 1: Digi-Key; Supplier Part Number 1: 568-9574-2-ND; Supplier 2: Digi-Key; Supplier Part Number 2: 568-9574-1-ND; Supplier 3: Digi-Key; Supplier Part Number 3: 568-9574-6-ND; Supplier 4: Mouser; Supplier Part Number 4: 771-PSMN3R0-30MLC115; Packing: Reel; Mounting Technology: Surface Mount; ComponentLink1Description: Manufacturer URL; ComponentLink1URL: http://www.nxp.com/; ComponentLink2Description: Datasheet; ComponentLink2URL: http://www.nxp.com/documents/data_sheet/PSMN3R0-30MLC.pdf; ComponentLink3Description: Package Specification; ComponentLink3URL: http://www.nxp.com/documents/outline_drawing/sot1210_po.pdf
footprint NXP-SOT1210_N (DPAK, 5-Leads, Body 3.4x2.7mm, Pitch 0.65mm, IPC Medium Density)
footprint NXP-SOT1210_L (DPAK, 5-Leads, Body 3.4x2.7mm, Pitch 0.65mm, IPC High Density)
footprint NXP-SOT1210_M (DPAK, 5-Leads, Body 3.4x2.7mm, Pitch 0.65mm, IPC Low Density)
pins: 1 S "source", 2 S "source", 3 S "source", 4 G "gate", 5 D "mounting base; connected to drain"
text: 1, 2, 3

## PSMN3R0-30YL,115
designator Q?
N-Channel Logic Level MOSFET, 30 V, 100 A, 5-Pin SOT669, Tape and Reel; Manufacturer: NXP Semiconductors; PartNumber: PSMN3R0-30YL,115; Channel Type: N; Ciss [typ] (pF): 2822; Coss [typ] (pF): 615; ID [max] (A): 100; Packing: Tape & Reel; Qr [typ] (nC): 29; VDS [max] (V): 30; VGSth [typ] (V): 1.7; DatasheetVersion: Rev. 04; PackageVersion: 13-02-27, 02/2013; PackageReference: SOT669; PackageDescription: 4-Pin Plastic Single-ended Surface Mounted Package, Body 4.9 x 3.95 mm, Pitch 1.27 mm; Supplier 1: Digi-Key; Supplier Part Number 1: 568-4681-2-ND; Supplier 2: Digi-Key; Supplier Part Number 2: 568-4681-1-ND; Supplier 3: Digi-Key; Supplier Part Number 3: 568-4681-6-ND; Supplier 4: Newark; Supplier Part Number 4: 79R2064; Supplier 5: Mouser; Supplier Part Number 5: 771-PSMN3R0-30YL-T/R; Mounting Technology: Surface Mount; Code_JEDEC: MO-235; ComponentLink1Description: Manufacturer URL; ComponentLink1URL: http://www.nxp.com/; ComponentLink2Description: Datasheet; ComponentLink2URL: http://www.nxp.com/documents/data_sheet/PSMN3R0-30YL.pdf; ComponentLink3Description: Package Specification; ComponentLink3URL: http://www.nxp.com/documents/outline_drawing/sot669_po.pdf
footprint NXP-SOT669_N (DPAK, 4-Leads, Body 5x4.1mm, Pitch 1.27mm, IPC Medium Density)
footprint NXP-SOT669_L (DPAK, 4-Leads, Body 5x4.1mm, Pitch 1.27mm, IPC High Density)
footprint NXP-SOT669_M (DPAK, 4-Leads, Body 5x4.1mm, Pitch 1.27mm, IPC Low Density)
pins: 1 S "source", 2 S "source", 3 S "source", 4 G "gate", 5 D "mounting base; connected to drain"
text: 1, 2, 3